# Altium footprint library generic 32u4 lib 2.PcbLib: 14 footprints
Each footprint in its own frame and in the unit in brackets; x right, y up, seen from the top. Pads: shape width x height; smd on the part's side, far side on the other; paste and mask are expansions set on the pad; w line width, h text height; cw(c..) or ccw(c..) is an arc to the next point about the centre after c.
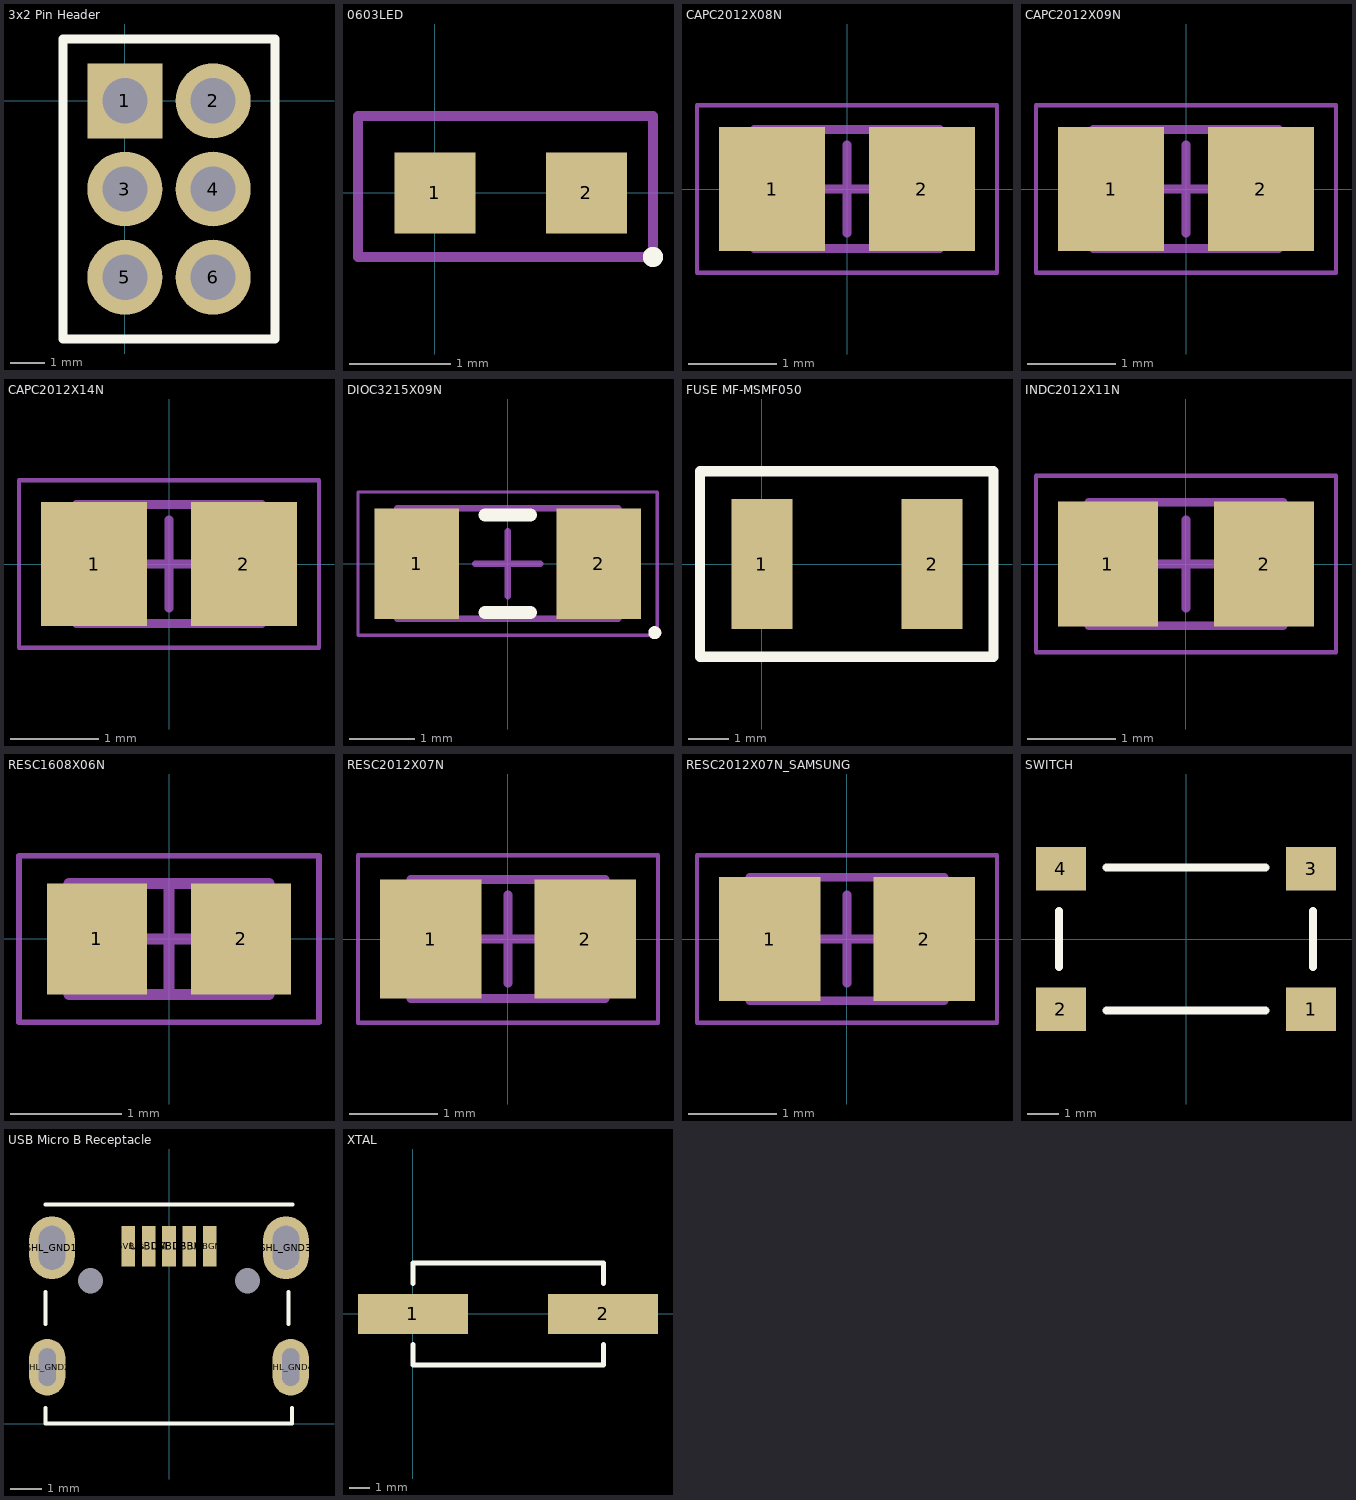
[diagram p0: the footprints below, top view; thin cyan lines are the x and y axes]

## 3x2 Pin Header [mil] "0.100\" Pin Header"
height 269.29
pads (6):
  rect 85x85 hole 51.18: 1(0,0)
  round 85 hole 51.18: 2(100,0) 3(0,-100) 4(100,-100) 5(0,-200) 6(100,-200)
Top Overlay:
  lines w10: -70,-270 -70,35 -70,70 170,70 170,-270 -70,-270
  text "." at -120,5 h39.37

## 0603LED [mm] "0603LED"
height 0.67
pads (2):
  rect 0.8x0.8 smd: 1(0,0) 2(1.5,0)
Top Overlay:
  circle w0.1: c2.159,-0.635 r0.05
Mechanical 15:
  lines w0.1: -0.762,-0.635 2.159,-0.635 2.159,0.762 -0.762,0.762 -0.762,-0.635

## CAPC2012X08N [mm] "Chip Capacitor, 2-Leads, Body 2.00x1.25mm, IPC Medium Density"
height 0.75
pads (2):
  rect 1.2x1.4 smd: 1(-0.85,0) 2(0.85,0)
Mechanical 13:
  lines w0.1: -1.05,-0.675 1.05,-0.675 1.05,0.675 -1.05,0.675 -1.05,-0.675
Mechanical 15:
  lines w0.05: -1.7,-0.95 1.7,-0.95 1.7,0.95 -1.7,0.95 -1.7,-0.95
  lines w0.1: -0.5,0 0.5,0 ; 0,-0.5 0,0.5
3D body "CAPC2012X08N.step": height 0.75, standoff 0, extent -1.05,-0.675 1.05,0.675

## CAPC2012X09N [mm] "Chip Capacitor, 2-Leads, Body 2.00x1.25mm, IPC Medium Density"
height 0.95
pads (2):
  rect 1.2x1.4 smd: 1(-0.85,0) 2(0.85,0)
Mechanical 13:
  lines w0.1: -1.05,-0.675 -1.05,0.675 1.05,0.675 1.05,-0.675 -1.05,-0.675
Mechanical 15:
  lines w0.05: -1.7,-0.95 -1.7,0.95 1.7,0.95 1.7,-0.95 -1.7,-0.95
  lines w0.1: -0.5,0 0.5,0 ; 0,-0.5 0,0.5
3D body "CAPC2012X09N.step": height 0.95, standoff 0, extent -1.05,-0.675 1.05,0.675

## CAPC2012X14N [mm] "Chip Capacitor, 2-Leads, Body 2.00x1.25mm, IPC Medium Density"
height 1.35
pads (2):
  rect 1.2x1.4 smd: 1(-0.85,0) 2(0.85,0)
Mechanical 13:
  lines w0.1: -1.05,-0.675 1.05,-0.675 1.05,0.675 -1.05,0.675 -1.05,-0.675
Mechanical 15:
  lines w0.05: -1.7,-0.95 1.7,-0.95 1.7,0.95 -1.7,0.95 -1.7,-0.95
  lines w0.1: -0.5,0 0.5,0 ; 0,-0.5 0,0.5
3D body "CAPC2012X14N.step": height 1.35, standoff 0, extent -1.05,-0.675 1.05,0.675

## DIOC3215X09N [mm] "Chip Diode, 2-Leads, Body 3.20x1.50mm, IPC Medium Density"
height 0.95
pads (2):
  rect 1.3x1.7 smd: 1(-1.4,0) 2(1.4,0)
Top Overlay:
  circle w0.1: c2.262,-1.062 r0.05
  lines w0.2: -0.35,-0.75 0.35,-0.75 ; -0.35,0.75 0.35,0.75
Mechanical 13:
  lines w0.1: -1.7,-0.85 1.7,-0.85 1.7,0.85 -1.7,0.85 -1.7,-0.85
Mechanical 15:
  lines w0.05: -2.3,-1.1 2.3,-1.1 2.3,1.1 -2.3,1.1 -2.3,-1.1
  lines w0.1: -0.5,0 0.5,0 ; 0,-0.5 0,0.5
3D body "DIOC3215X09N.step": height 0.95, standoff 0, extent -1.7,-0.85 1.7,0.85

## FUSE MF-MSMF050 [mm]
height 0.033
pads (2):
  rect 1.5x3.2 smd: 1(0,0) 2(4.2,0)
Top Overlay:
  lines w0.254: -1.524,-2.286 -1.524,2.286 5.715,2.286 5.715,-2.286 -1.524,-2.286

## INDC2012X11N [mm] "Chip Inductor, 2-Leads, Body 2.00x1.20mm, IPC Medium Density"
height 1.1
pads (2):
  rect 1.13x1.42 smd: 1(-0.885,0) 2(0.885,0)
Mechanical 13:
  lines w0.1: -1.1,-0.7 -1.1,0.7 1.1,0.7 1.1,-0.7 -1.1,-0.7
Mechanical 15:
  lines w0.05: -1.7,-1 -1.7,1 1.7,1 1.7,-1 -1.7,-1
  lines w0.1: -0.5,0 0.5,0 ; 0,-0.5 0,0.5
3D body: height 1.1, standoff 0, extent -0.6,-0.7 0.6,0.7
3D body: height 1.1, standoff 0, extent -1.1,-0.7 -0.6,0.7
3D body: height 1.1, standoff 0, extent 0.6,-0.7 1.1,0.7

## RESC1608X06N [mm] "Chip Resistor, 2-Leads, Body 1.60x0.80mm, IPC Medium Density"
height 0.55
pads (2):
  rect 0.9x1 smd: 1(-0.65,0) 2(0.65,0)
Mechanical 13:
  lines w0.1: -0.9,-0.5 -0.9,0.5 0.9,0.5 0.9,-0.5 -0.9,-0.5
Mechanical 15:
  lines w0.05: -1.35,-0.75 -1.35,0.75 1.35,0.75 1.35,-0.75 -1.35,-0.75
  lines w0.1: -0.5,0 0.5,0 ; 0,-0.5 0,0.5
3D body: height 0.55, standoff 0, extent -0.6,-0.5 0.6,0.5
3D body: height 0.55, standoff 0, extent -0.9,-0.5 -0.6,0.5
3D body: height 0.55, standoff 0, extent 0.6,-0.5 0.9,0.5

## RESC2012X07N [mm] "Chip Resistor, 2-Leads, Body 2.00x1.25mm, IPC Medium Density"
height 0.7
pads (2):
  rect 1.15x1.35 smd: 1(-0.875,0) 2(0.875,0)
Mechanical 13:
  lines w0.1: -1.1,-0.675 1.1,-0.675 1.1,0.675 -1.1,0.675 -1.1,-0.675
Mechanical 15:
  lines w0.05: -1.7,-0.95 1.7,-0.95 1.7,0.95 -1.7,0.95 -1.7,-0.95
  lines w0.1: -0.5,0 0.5,0 ; 0,-0.5 0,0.5
3D body: height 0.7, standoff 0, extent 0.7,-0.675 1.1,0.675
3D body: height 0.7, standoff 0, extent -1.1,-0.675 -0.7,0.675
3D body: height 0.7, standoff 0, extent -0.7,-0.675 0.7,0.675

## RESC2012X07N_SAMSUNG [mm] "Chip Resistor, 2-Leads, Body 2.00x1.25mm, IPC Medium Density"
height 0.65
pads (2):
  rect 1.15x1.4 smd: 1(-0.875,0) 2(0.875,0)
Mechanical 13:
  lines w0.1: -1.1,-0.7 1.1,-0.7 1.1,0.7 -1.1,0.7 -1.1,-0.7
Mechanical 15:
  lines w0.05: -1.7,-0.95 1.7,-0.95 1.7,0.95 -1.7,0.95 -1.7,-0.95
  lines w0.1: -0.5,0 0.5,0 ; 0,-0.5 0,0.5
3D body "RESC2012X07N_0-OHM-JMP.step": height 0.65, standoff 0, extent -1.1,-0.7 1.1,0.7

## SWITCH [mm] "SWITCH"
height 6.3
pads (4):
  rect 1.6x1.4 smd: 1(4,-2.25) 2(-4,-2.25) 3(4,2.25) 4(-4,2.25)
Top Overlay:
  lines w0.254: -4.064,-0.889 -4.064,0.889 ; -2.54,-2.286 2.54,-2.286 ; -2.54,2.286 2.54,2.286 ; 4.064,-0.889 4.064,0.889

## USB Micro B Receptacle [mm] "Wurth Electronics Inc - 629105150521"
height 2.6
pads (11):
  rect 0.432x1.3 smd: +5VBus(-1.3,5.65) USBDM(-0.65,5.65) USBDP(0,5.65) USBGND(1.3,5.65) USBID(0.65,5.65)
  round 0 hole 0.8 unplated: H1(-2.5,4.55) H2(2.5,4.55)
  oval 1.45x2 hole 0.85 slot 1.4 at 90 deg: SHL_GND1(-3.725,5.6) SHL_GND3(3.725,5.6)
  oval 1.15x1.8 hole 0.55 slot 1.2 at 90 deg: SHL_GND2(-3.875,1.8) SHL_GND4(3.875,1.8)
Top Overlay:
  lines w0.127: -3.937,0.508 -3.937,0 3.912,0 3.912,0.508 ; -3.937,3.175 -3.937,4.191 ; -3.937,6.985 3.937,6.985 ; 3.81,3.175 3.81,4.191
  text "." at -1.397,6.604 h1.27

## XTAL [mm]
height 4.1
pads (2):
  rect 5.5x2 smd: 1(0,0) 2(9.5,0)
Top Overlay:
  lines w0.254: 0,-1.524 0,-2.54 9.525,-2.54 9.525,-1.524 ; 0,1.524 0,2.54 9.525,2.54 9.525,1.524